# EAGLE library part DS1338Z-33 (library 1-my-library)
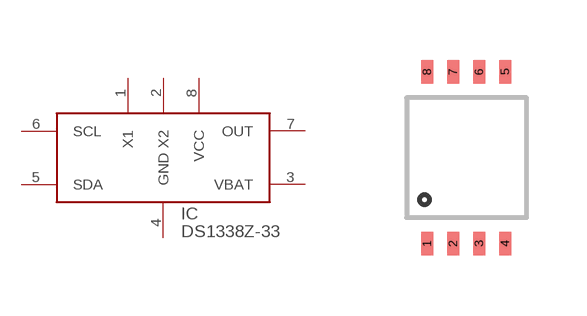
[diagram p1: symbol with the pads of 8UMAX; footprint 8UMAX]

Designator prefix IC

## DS1338Z-33  [8UMAX]
1  X1  out
2  X2  out
3  VBAT  out
4  GND  out
5  SDA  out
6  SCL  out
7  OUT  out
8  VCC  out

## Footprint 8UMAX (pad centres in mm)
smd 0.3 x 0.6: 1 0.52,0.3; 2 1.17,0.3; 3 1.82,0.3; 4 2.47,0.3; 5 2.47,4.6; 6 1.82,4.6; 7 1.17,4.6; 8 0.52,4.6